# Altium schematic symbol library can_phy.SchLib: 16 symbols
Pins are listed as number, name and electrical type; pins without a type are passive.

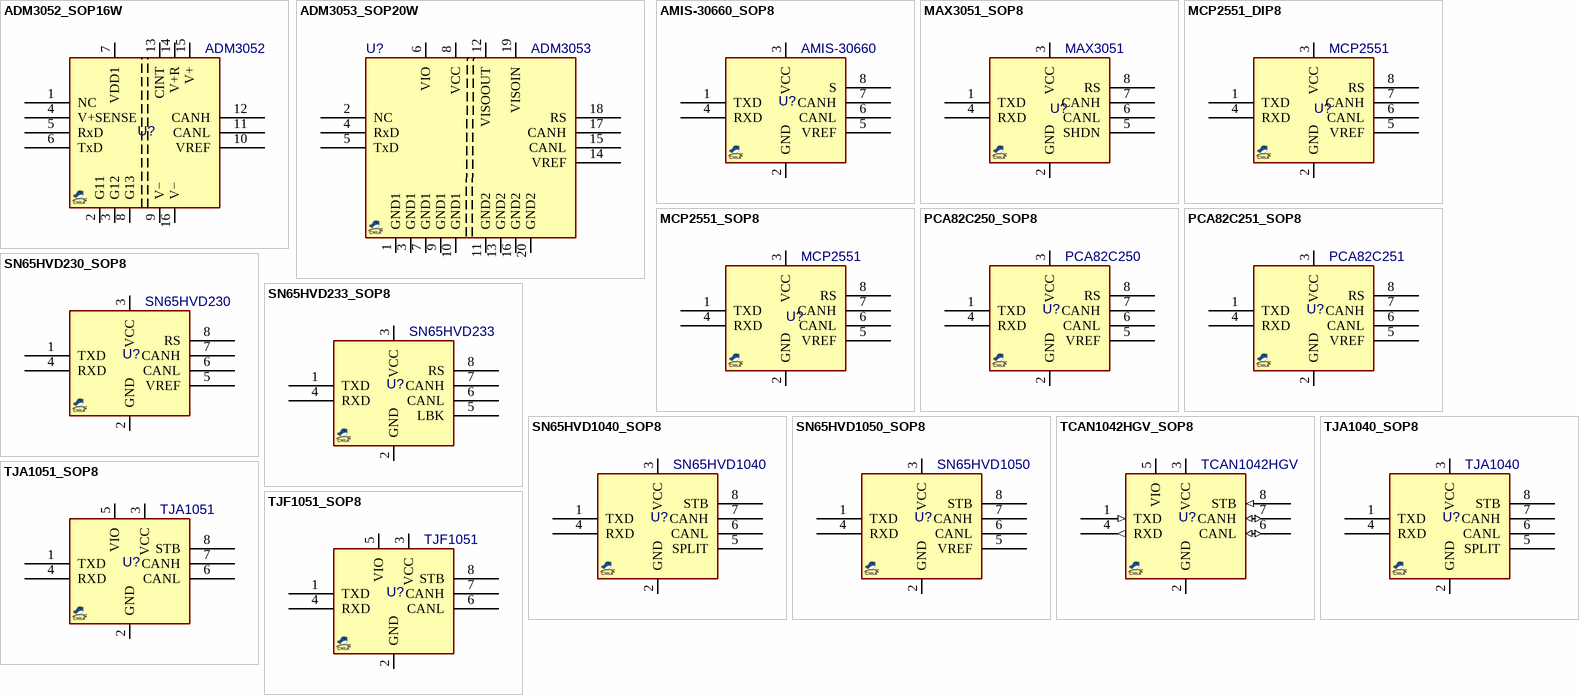
[diagram p0: symbols ADM3052_SOP16W to TJF1051_SOP8]

## ADM3052_SOP16W
designator U?, comment ADM3052
CAN Transceiver, Isolated, Integrated  High Voltage, Bus-Side, Linear Regulator; MANF: Analog Devices; MANF_P#: ADM3052BRWZ; PARAM2: 3.3/5V (VDD1), 11~25V (V+); PARAM: PARAM; PACKAGE: SOP-16W; VALUE: ADM3052
footprint SO_16_W
pins: 1 NC, 2 G11, 3 G12, 4 V+SENSE, 5 RxD, 6 TxD, 7 VDD1, 8 G13, 9 V−, 10 VREF, 11 CANL, 12 CANH, 13 CINT, 14 V+R, 15 V+, 16 V−

## ADM3053_SOP20W
designator U?, comment ADM3053
CAN Transceiver, Isolated, Signal and Power, Integrated Isolated DC-to-DC Converter; MANF: Analog Devices; MANF_P#: ADM3053BRWZ; PARAM2: 3.3/5V (VIO), 5V (VCC); PRICE: 15$; ASSEMBLY: ASSEMBLY; PARAM: PARAM; VALUE: ADM3053; PACKAGE: SOP-20W
footprint SO_20_W
pins: 1 GND1, 2 NC, 3 GND1, 4 RxD, 5 TxD, 6 VIO, 7 GND1, 8 VCC, 9 GND1, 10 GND1, 11 GND2, 12 VISOOUT, 13 GND2, 14 VREF, 15 CANL, 16 GND2, 17 CANH, 18 RS, 19 VISOIN, 20 GND2

## AMIS-30660_SOP8
designator U?, comment AMIS-30660
CAN, phy, High speed, 5V (VDD), Compatible with 3.3V Devices; MANF: ON; MANF_P#: AMIS30660CANH2RG, AMIS30660CANH6G, AMIS30660CANH6RG; PARAM2: 5V (VDD), 12/24V SYSTEM; PRICE: 1$@MOUSER; PARAM: PARAM; VALUE: AMIS-30660; PACKAGE: SOP-8
footprint SO_8
pins: 1 TXD, 2 GND, 3 VCC, 4 RXD, 5 VREF, 6 CANL, 7 CANH, 8 S

## MAX3051_SOP8
designator U?, comment MAX3051
Can, Transceiver, High Speed, 3.3V (VDD); MANF: Maxim Integrated; MANF_P#: MAX3051ESA+; PRICE: 1.8$@MOUSER; PARAM2: 3.3V (VDD); PARAM: PARAM; VALUE: MAX3051; PACKAGE: SOP-8
footprint SO_8
pins: 1 TXD, 2 GND, 3 VCC, 4 RXD, 5 SHDN, 6 CANL, 7 CANH, 8 RS

## MCP2551_DIP8
designator U?, comment MCP2551
Can, Transceiver, High Speed, 5V (VDD); MANF: MICROCHIP; MANF_P#: MCP2551-I/P; PARAM2: 5V (VDD), 12/24V; PRICE: 5000toman@PAYA, 2000toman@JAVAN; PARAM: PARAM; VALUE: MCP2551; PACKAGE: DIP-8
footprint DIP_8 (DIP, pitch 2.54mm, 300mil Width)
pins: 1 TXD, 2 GND, 3 VCC, 4 RXD, 5 VREF, 6 CANL, 7 CANH, 8 RS

## MCP2551_SOP8
designator U?, comment MCP2551
Can, Transceiver, High Speed, 5V (VDD); MANF: MICROCHIP; MANF_P#: MCP2551-I/SN; PARAM2: 5V (VDD), 12/24V; PRICE: 3000toman@PAYA; PARAM: PARAM; PACKAGE: SOP-8; VALUE: MCP2551
footprint SO_8
pins: 1 TXD, 2 GND, 3 VCC, 4 RXD, 5 VREF, 6 CANL, 7 CANH, 8 RS

## PCA82C250_SOP8
designator U?, comment PCA82C250
CAN, phy, High speed 1MBd, 5V (VDD); MANF: NXP; MANF_P#: PCA82C250T; PRICE: 2000toman@JAVAN; PARAM2: 5V (VDD); PARAM: PARAM; VALUE: PCA82C250; PACKAGE: SOP-8
footprint SO_8
pins: 1 TXD, 2 GND, 3 VCC, 4 RXD, 5 VREF, 6 CANL, 7 CANH, 8 RS

## PCA82C251_SOP8
designator U?, comment PCA82C251
CAN, phy, High speed 1MBd, 5V (VDD); MANF: NXP; MANF_P#: PCA82C251T; PARAM2: 5V (VDD), 24V SYSTEM; PRICE: 2000toman@JAVAN; PARAM: PARAM; VALUE: PCA82C251; PACKAGE: SOP-8
footprint SO_8
pins: 1 TXD, 2 GND, 3 VCC, 4 RXD, 5 VREF, 6 CANL, 7 CANH, 8 RS

## SN65HVD230_SOP8
designator U?, comment SN65HVD230
CAN,  Transceivers, 3.3V (VDD); MANF: Texas Instruments; MANF_P#: SN65HVD230D, SN65HVD230QD; PARAM: -40~85oC; PRICE: 2.3$@MOUSER; PARAM2: 3.3V (VDD); VALUE: SN65HVD230; PACKAGE: SOP-8
footprint SO_8
pins: 1 TXD, 2 GND, 3 VCC, 4 RXD, 5 VREF, 6 CANL, 7 CANH, 8 RS

## SN65HVD233_SOP8
designator U?, comment SN65HVD233
CAN,  Transceivers, 3.3VCC; MANF: Texas Instruments; MANF_P#: SN65HVD233D; PARAM: -40~85oC; PRICE: 3$@MOUSER; PARAM2: 3.3VCC; VALUE: SN65HVD233; PACKAGE: SOP-8
footprint SO_8
pins: 1 TXD, 2 GND, 3 VCC, 4 RXD, 5 LBK, 6 CANL, 7 CANH, 8 RS

## SN65HVD1040_SOP8
designator U?, comment SN65HVD1040
CAN, Transceiver, EMC-Optimized, 5VCC; MANF: Texas Instruments; MANF_P#: SN65HVD1040D, SN65HVD1040AQDRQ1, SN65HVD1040-Q1; PARAM: High Input Impedance; PRICE: 1.6$@MOUSER; PARAM2: 5VCC; VALUE: SN65HVD1040; PACKAGE: SOP-8
footprint SO_8
pins: 1 TXD, 2 GND, 3 VCC, 4 RXD, 5 SPLIT, 6 CANL, 7 CANH, 8 STB

## SN65HVD1050_SOP8
designator U?, comment SN65HVD1050
CAN, Transceiver, EMC-Optimized, 5VCC; MANF: Texas Instruments; MANF_P#: SN65HVD1050D; PARAM: High Input Impedance; PRICE: 1.3$@MOUSER; PARAM2: 5VCC; VALUE: SN65HVD1050; PACKAGE: SOP-8
footprint SO_8
pins: 1 TXD, 2 GND, 3 VCC, 4 RXD, 5 VREF, 6 CANL, 7 CANH, 8 STB

## TCAN1042HGV_SOP8
designator U?, comment TCAN1042HGV
CAN,  Transceivers, Fault Protected, FD; MANF: Texas Instruments; MANF_P#: TCAN1042HGVD; PARAM2: 5v and 3.3VIO; PARAM: -55~125oC; PRICE: 2.3$@MOUSER; PACKAGE: SOP-8; VALUE: TCAN1042HGV
footprint SO_8
pins: 1 TXD (in), 2 GND (power), 3 VCC (power), 4 RXD (out), 5 VIO (power), 6 CANL (io), 7 CANH (io), 8 STB (in)

## TJA1040_SOP8
designator U?, comment TJA1040
CAN, phy, High speed, 5V (VDD); MANF: NXP; MANF_P#: TJA1040T; PRICE: 4000toman@PAYA; PARAM2: 5V (VDD); PARAM: PARAM; VALUE: TJA1040; PACKAGE: SOP-8
footprint SO_8
pins: 1 TXD, 2 GND, 3 VCC, 4 RXD, 5 SPLIT, 6 CANL, 7 CANH, 8 STB

## TJA1051_SOP8
designator U?, comment TJA1051
CAN, phy, High sp 5Mbps, 5V (VDD), 3/5V (VIO); MANF: NXP; MANF_P#: TJA1051T; PARAM2: 5V (VDD), 3/5V (VIO), 12/24V SYSTEM; PRICE: 3500toman@PAYA; PARAM: PARAM; VALUE: TJA1051; PACKAGE: SOP-8
footprint SO_8
pins: 1 TXD, 2 GND, 3 VCC, 4 RXD, 5 VIO, 6 CANL, 7 CANH, 8 STB

## TJF1051_SOP8
designator U?, comment TJF1051
CAN, phy, High sp 5Mbps, 5V (VDD), 3/5V (VIO); MANF: NXP; MANF_P#: TJF1051T/1; PRICE: 2300toman@JAVAN; PARAM2: 5V (VDD); PARAM: PARAM; VALUE: TJF1051; PACKAGE: SOP-8
footprint SO_8
pins: 1 TXD, 2 GND, 3 VCC, 4 RXD, 5 VIO, 6 CANL, 7 CANH, 8 STB